# EAGLE library part ADT7410 (library components)
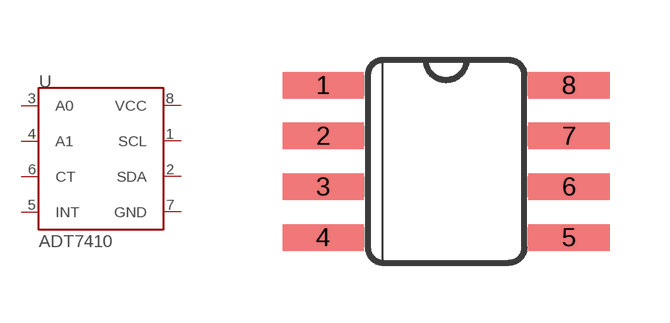
[diagram p10: symbol with the pads of SOIC-8; footprint SOIC-8]

Designator prefix -

## ADT7410  [SOIC-8]
1  SCL  in
2  SDA
3  A0  in
4  A1  out
5  INT  in
6  CT  in
7  GND  pwr
8  VCC  pwr

## Footprint SOIC-8 (pad centres in mm)
smd 2.032 x 0.66: 1 -3.073,1.27; 2 -3.073,0; 3 -3.073,-1.27; 4 -3.073,-2.54; 5 3.073,-2.54; 6 3.073,-1.27; 7 3.073,0; 8 3.073,1.27